# EAGLE library part BD33KA5WF (library ROHM_By_element14_Batch_1)
500mA Fixed 3.3V LDO Regulator
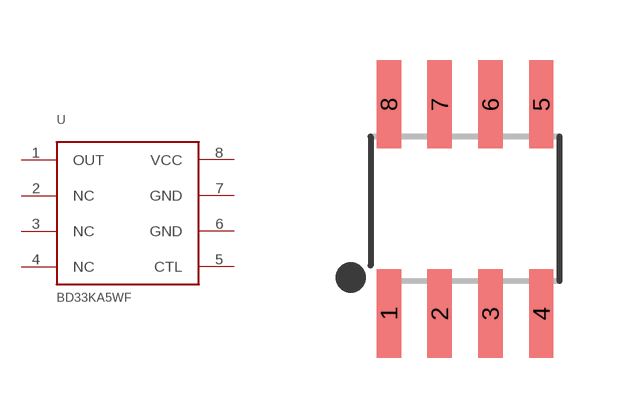
[diagram p0: symbol with the pads of SOP8-1.27-5X3.6MM; footprint SOP8-1.27-5X3.6MM]

Designator prefix -

## BD33KA5WF  [SOP8-1.27-5X3.6MM]
1  OUT  out
2  NC  nc
3  NC  nc
4  NC  nc
5  CTL  in
6  GND  pwr
7  GND  pwr
8  VCC  pwr

## Footprint SOP8-1.27-5X3.6MM (pad centres in mm)
Small Outline Package
smd 0.61 x 2.21: 1 -1.905,-2.616; 2 -0.635,-2.616; 3 0.635,-2.616; 4 1.905,-2.616; 5 1.905,2.616; 6 0.635,2.616; 7 -0.635,2.616; 8 -1.905,2.616